# Altium footprint library PcbLib1.PcbLib: 8 footprints
Each footprint in its own frame and in the unit in brackets; x right, y up, seen from the top. Pads: shape width x height; smd on the part's side, far side on the other; paste and mask are expansions set on the pad; w line width, h text height; cw(c..) or ccw(c..) is an arc to the next point about the centre after c.
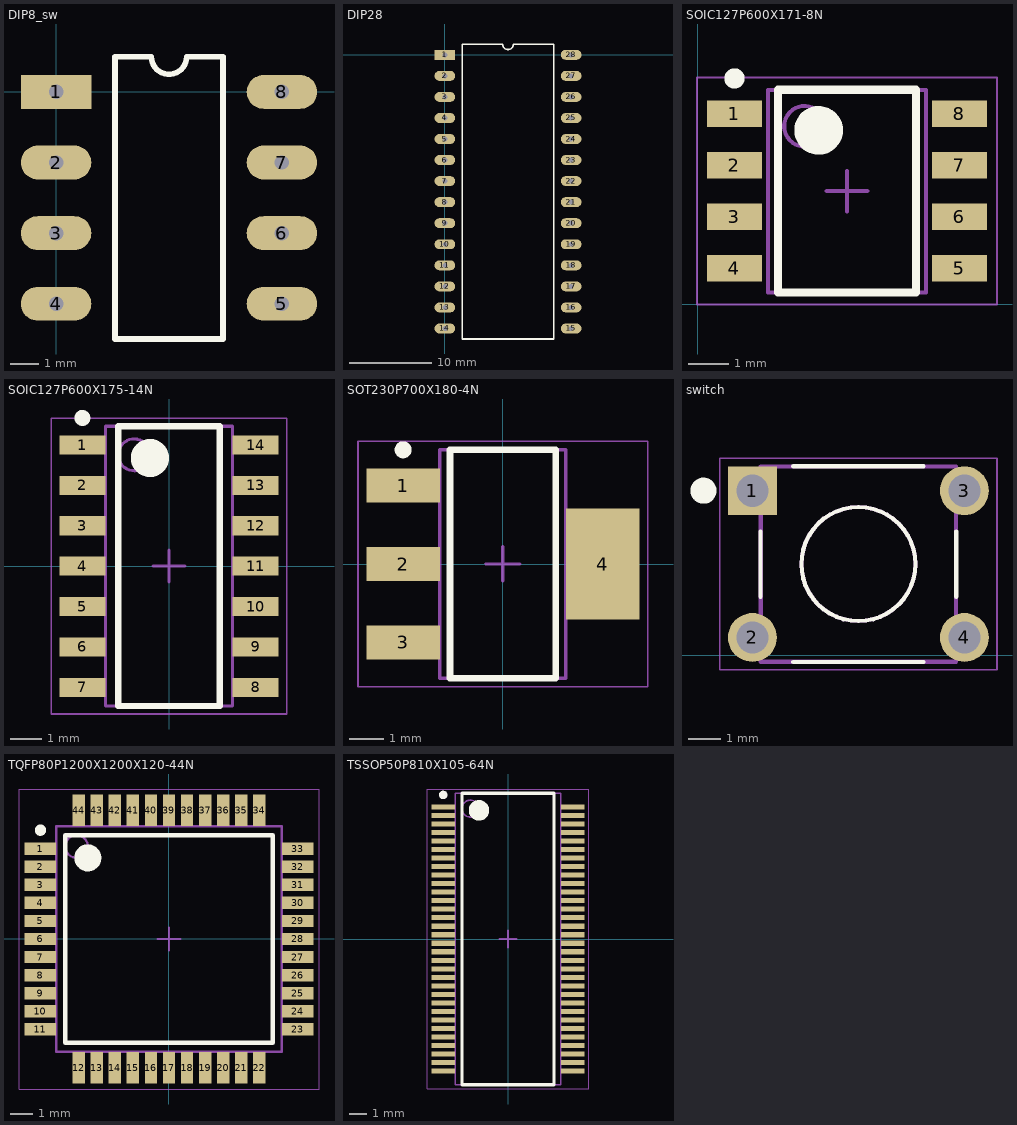
[diagram p0: the footprints below, top view; thin cyan lines are the x and y axes]

## DIP8_sw [mm]
pads (8):
  rect 2.5x1.2 hole 0.51: 1(0,0)
  oval 2.5x1.2 hole 0.51: 2(0,-2.5) 3(0,-5) 4(0,-7.5) 5(8,-7.5) 6(8,-5) 7(8,-2.5) 8(8,0)
Top Overlay:
  lines w0.2: 2.085,-8.75 2.085,1.25 3.375,1.25 ccw(c4,1.25) 4.625,1.25 5.915,1.25 5.915,-8.75 2.085,-8.75

## DIP28 [mm]
pads (28):
  rect 2.5x1.2 hole 0.6: 1(0,0)
  oval 2.5x1.2 hole 0.6: 2(0,-2.54) 3(0,-5.08) 4(0,-7.62) 5(0,-10.16) 6(0,-12.7) 7(0,-15.24) 8(0,-17.78) 9(0,-20.32) 10(0,-22.86) 11(0,-25.4) 12(0,-27.94) 13(0,-30.48) 14(0,-33.02) 15(15.24,-33.02) 16(15.24,-30.48) 17(15.24,-27.94) 18(15.24,-25.4) 19(15.24,-22.86) 20(15.24,-20.32) 21(15.24,-17.78) 22(15.24,-15.24) 23(15.24,-12.7) 24(15.24,-10.16) 25(15.24,-7.62) 26(15.24,-5.08) 27(15.24,-2.54) 28(15.24,0)
Top Overlay:
  lines w0.2: 2.085,-34.29 13.155,-34.29 13.155,1.27 8.255,1.27 cw(c7.62,1.27) 6.985,1.27 2.085,1.27 2.085,-34.29

## SOIC127P600X171-8N [mm] "SOIC, 8-Leads, Body 4,91x3,80mm, Pitch 1,27mm, IPC Medium Density"
height 1.71
pads (8):
  rect 1.35x0.65 smd: 1(0.908,4.699) 2(0.908,3.429) 3(0.908,2.159) 4(0.908,0.889) 5(6.458,0.889) 6(6.458,2.159) 7(6.458,3.429) 8(6.458,4.699)
Top Overlay:
  circle w0.6: c2.983,4.294 r0.3
  circle w0.25: c0.908,5.574 r0.125
  lines w0.2: 1.983,0.294 5.383,0.294 5.383,5.294 1.983,5.294 1.983,0.294
Mechanical 13:
  circle w0.1: c2.633,4.394 r0.5
  lines w0.1: 1.733,0.294 5.633,0.294 5.633,5.294 1.733,5.294 1.733,0.294
Mechanical 15:
  lines w0.05: -0.017,-0.006 7.383,-0.006 7.383,5.594 -0.017,5.594 -0.017,-0.006
  lines w0.1: 3.183,2.794 4.183,2.794 ; 3.683,2.294 3.683,3.294
3D body: height 1.71, standoff 0.27, extent 1.733,0.294 5.633,5.294

## SOIC127P600X175-14N [mm] "SOIC, 14-Leads, Body 8,65x3,90mm, Pitch 1,27mm, IPC Medium Density"
height 1.75
pads (14):
  rect 1.45x0.6 smd: 1(-2.725,3.81) 2(-2.725,2.54) 3(-2.725,1.27) 4(-2.725,0) 5(-2.725,-1.27) 6(-2.725,-2.54) 7(-2.725,-3.81) 8(2.725,-3.81) 9(2.725,-2.54) 10(2.725,-1.27) 11(2.725,0) 12(2.725,1.27) 13(2.725,2.54) 14(2.725,3.81)
Top Overlay:
  circle w0.6: c-0.6,3.4 r0.3
  circle w0.25: c-2.725,4.66 r0.125
  lines w0.2: -1.6,-4.4 1.6,-4.4 1.6,4.4 -1.6,4.4 -1.6,-4.4
Mechanical 13:
  circle w0.1: c-1.1,3.5 r0.5
  lines w0.1: -2,-4.4 2,-4.4 2,4.4 -2,4.4 -2,-4.4
Mechanical 15:
  lines w0.05: -3.7,-4.65 3.7,-4.65 3.7,4.65 -3.7,4.65 -3.7,-4.65
  lines w0.1: -0.5,0 0.5,0 ; 0,-0.5 0,0.5
3D body: height 1.75, standoff 0.25, extent -2,-4.4 2,4.4

## SOT230P700X180-4N [mm] "SOT223, 4-Leads, Body 6,50x7,00mm (avg), Pitch 2,30mm, IPC Medium Density"
height 1.8
pads (4):
  rect 2.15x1 smd: 1(-2.925,2.3) 2(-2.925,0) 3(-2.925,-2.3)
  rect 2.15x3.25 smd: 4(2.925,0)
Top Overlay:
  circle w0.25: c-2.925,3.35 r0.125
  lines w0.2: -1.55,-3.35 1.55,-3.35 1.55,3.35 -1.55,3.35 -1.55,-3.35
Mechanical 13:
  lines w0.1: -1.85,-3.35 1.85,-3.35 1.85,3.35 -1.85,3.35 -1.85,-3.35
Mechanical 15:
  lines w0.05: -4.25,-3.6 4.25,-3.6 4.25,3.6 -4.25,3.6 -4.25,-3.6
  lines w0.1: -0.5,0 0.5,0 ; 0,-0.5 0,0.5
3D body: height 1.8, standoff 0.02, extent -1.85,-3.35 1.85,3.35

## switch [mm]
pads (4):
  rect 1.498x1.498 hole 0.99: 1(2.592,5.044)
  round 1.498 hole 0.99: 2(2.592,0.544) 3(9.092,5.044) 4(9.092,0.544)
Top Overlay:
  circle w0.4: c1.092,5.044 r0.2
  circle w0.127: c5.842,2.794 r1.75
  lines w0.127: 2.842,1.794 2.842,3.794 ; 3.842,-0.206 7.842,-0.206 ; 3.842,5.794 7.842,5.794 ; 8.842,1.794 8.842,3.794
Mechanical 4:
  circle w0.4: c2.592,5.044 r0.2
  circle w0.127: c5.842,2.794 r1.75
  circle w0.4: c2.592,5.044 r0.2
  circle w0.127: c5.842,2.794 r1.75
  lines w0.127: 2.847,-0.201 8.837,-0.201 ; 2.847,-0.201 2.847,5.789 ; 2.847,-0.201 8.837,-0.201 ; 2.847,-0.201 2.847,5.789 ; 2.847,5.789 8.837,5.789 ; 2.847,5.789 8.837,5.789 ; 8.837,-0.201 8.837,5.789 ; 8.837,-0.201 8.837,5.789
Mechanical 16:
  lines w0.05: 1.592,-0.451 1.592,6.044 10.092,6.044 10.092,-0.451 1.592,-0.451

## TQFP80P1200X1200X120-44N [mm] "TQFP, 44-Leads, Body 10,00x10,00mm, Pitch 0,80mm, IPC Medium Density"
height 1.2
pads (44):
  rect 1.4x0.55 smd: 1(-5.7,4) 2(-5.7,3.2) 3(-5.7,2.4) 4(-5.7,1.6) 5(-5.7,0.8) 6(-5.7,0) 7(-5.7,-0.8) 8(-5.7,-1.6) 9(-5.7,-2.4) 10(-5.7,-3.2) 11(-5.7,-4) 23(5.7,-4) 24(5.7,-3.2) 25(5.7,-2.4) 26(5.7,-1.6) 27(5.7,-0.8) 28(5.7,0) 29(5.7,0.8) 30(5.7,1.6) 31(5.7,2.4) 32(5.7,3.2) 33(5.7,4)
  rect 0.55x1.4 smd: 12(-4,-5.7) 13(-3.2,-5.7) 14(-2.4,-5.7) 15(-1.6,-5.7) 16(-0.8,-5.7) 17(0,-5.7) 18(0.8,-5.7) 19(1.6,-5.7) 20(2.4,-5.7) 21(3.2,-5.7) 22(4,-5.7) 34(4,5.7) 35(3.2,5.7) 36(2.4,5.7) 37(1.6,5.7) 38(0.8,5.7) 39(0,5.7) 40(-0.8,5.7) 41(-1.6,5.7) 42(-2.4,5.7) 43(-3.2,5.7) 44(-4,5.7)
Top Overlay:
  circle w0.25: c-5.7,4.825 r0.125
  circle w0.6: c-3.6,3.6 r0.3
  lines w0.2: -4.6,-4.6 -4.6,4.6 4.6,4.6 4.6,-4.6 -4.6,-4.6
Mechanical 13:
  circle w0.1: c-4.1,4.1 r0.5
  lines w0.1: -5,-5 -5,5 5,5 5,-5 -5,-5
Mechanical 15:
  lines w0.05: -6.65,-6.65 -6.65,6.65 6.65,6.65 6.65,-6.65 -6.65,-6.65
  lines w0.1: -0.5,0 0.5,0 ; 0,-0.5 0,0.5
3D body: height 1.2, standoff 0.05, extent -5,-5 5,5

## TSSOP50P810X105-64N [mm] "TSSOP, 64-Leads, Body 17,00x6,10mm, Pitch 0,50mm, IPC Medium Density"
height 1.05
pads (64):
  rect 1.4x0.3 smd: 1(-3.8,7.75) 2(-3.8,7.25) 3(-3.8,6.75) 4(-3.8,6.25) 5(-3.8,5.75) 6(-3.8,5.25) 7(-3.8,4.75) 8(-3.8,4.25) 9(-3.8,3.75) 10(-3.8,3.25) 11(-3.8,2.75) 12(-3.8,2.25) 13(-3.8,1.75) 14(-3.8,1.25) 15(-3.8,0.75) 16(-3.8,0.25) 17(-3.8,-0.25) 18(-3.8,-0.75) 19(-3.8,-1.25) 20(-3.8,-1.75) 21(-3.8,-2.25) 22(-3.8,-2.75) 23(-3.8,-3.25) 24(-3.8,-3.75) 25(-3.8,-4.25) 26(-3.8,-4.75) 27(-3.8,-5.25) 28(-3.8,-5.75) 29(-3.8,-6.25) 30(-3.8,-6.75) 31(-3.8,-7.25) 32(-3.8,-7.75) 33(3.8,-7.75) 34(3.8,-7.25) 35(3.8,-6.75) 36(3.8,-6.25) 37(3.8,-5.75) 38(3.8,-5.25) 39(3.8,-4.75) 40(3.8,-4.25) 41(3.8,-3.75) 42(3.8,-3.25) 43(3.8,-2.75) 44(3.8,-2.25) 45(3.8,-1.75) 46(3.8,-1.25) 47(3.8,-0.75) 48(3.8,-0.25) 49(3.8,0.25) 50(3.8,0.75) 51(3.8,1.25) 52(3.8,1.75) 53(3.8,2.25) 54(3.8,2.75) 55(3.8,3.25) 56(3.8,3.75) 57(3.8,4.25) 58(3.8,4.75) 59(3.8,5.25) 60(3.8,5.75) 61(3.8,6.25) 62(3.8,6.75) 63(3.8,7.25) 64(3.8,7.75)
Top Overlay:
  circle w0.25: c-3.8,8.45 r0.125
  circle w0.6: c-1.7,7.55 r0.3
  lines w0.2: -2.7,-8.55 -2.7,8.55 2.7,8.55 2.7,-8.55 -2.7,-8.55
Mechanical 13:
  circle w0.1: c-2.2,7.65 r0.5
  lines w0.1: -3.1,-8.55 -3.1,8.55 3.1,8.55 3.1,-8.55 -3.1,-8.55
Mechanical 15:
  lines w0.05: -4.75,-8.8 -4.75,8.8 4.75,8.8 4.75,-8.8 -4.75,-8.8
  lines w0.1: -0.5,0 0.5,0 ; 0,-0.5 0,0.5
3D body: height 1.05, standoff 0.05, extent -2.54,-8.55 2.794,8.55